# Altium footprint library LGA12_2X2X1_H.PcbLib: 1 footprints
Each footprint in its own frame and in the unit in brackets; x right, y up, seen from the top. Pads: shape width x height; smd on the part's side, far side on the other; paste and mask are expansions set on the pad; w line width, h text height; cw(c..) or ccw(c..) is an arc to the next point about the centre after c.
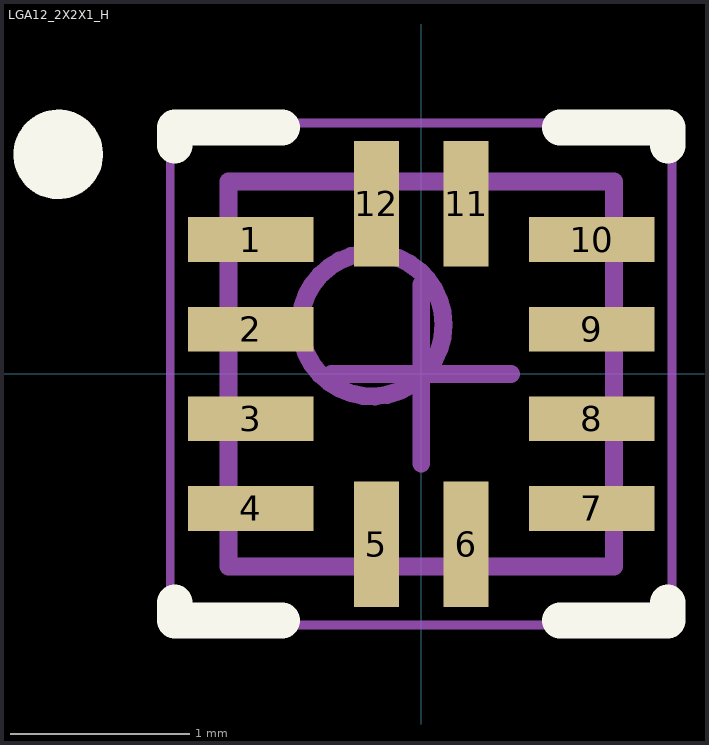
[diagram p0: the footprint, top view; thin cyan lines are the x and y axes]

## LGA12_2X2X1_H [mm] "LGA, 12-Leads, Body 2,00x2,00mm, Pitch 0,50mm, IPC High Density"
height 1
pads (12):
  rect 0.7x0.25 smd: 1(-0.95,0.75) 2(-0.95,0.25) 3(-0.95,-0.25) 4(-0.95,-0.75) 7(0.95,-0.75) 8(0.95,-0.25) 9(0.95,0.25) 10(0.95,0.75)
  rect 0.25x0.7 smd: 5(-0.25,-0.95) 6(0.25,-0.95) 11(0.25,0.95) 12(-0.25,0.95)
Top Overlay:
  circle w0.25: c-2.025,1.225 r0.125
  lines w0.2: -1.375,-1.275 -1.375,-1.375 -0.775,-1.375 ; -1.375,1.275 -1.375,1.375 -0.775,1.375 ; 0.775,-1.375 1.375,-1.375 1.375,-1.275 ; 0.775,1.375 1.375,1.375 1.375,1.275
Mechanical 13:
  circle w0.1: c-0.275,0.275 r0.4
  lines w0.1: -1.075,-1.075 1.075,-1.075 1.075,1.075 -1.075,1.075 -1.075,-1.075
Mechanical 15:
  lines w0.05: -1.4,-1.4 1.4,-1.4 1.4,1.4 -1.4,1.4 -1.4,-1.4
  lines w0.1: -0.5,0 0.5,0 ; 0,-0.5 0,0.5
Mechanical 17:
  text "'.Designator'" at -1.27,-0.762 h0.51
Mechanical 19:
  text "'.Comment'" at -1.27,-0.762 h0.51
3D body "User Library-lga-2x2x0_9.step": height 0.95, standoff 0, extent -1,-1 1,1